# EAGLE library part LCD-DOGM128-6 (library DodoLcd)
DOGM GRAPHIC SERIES 128x64 DOTS
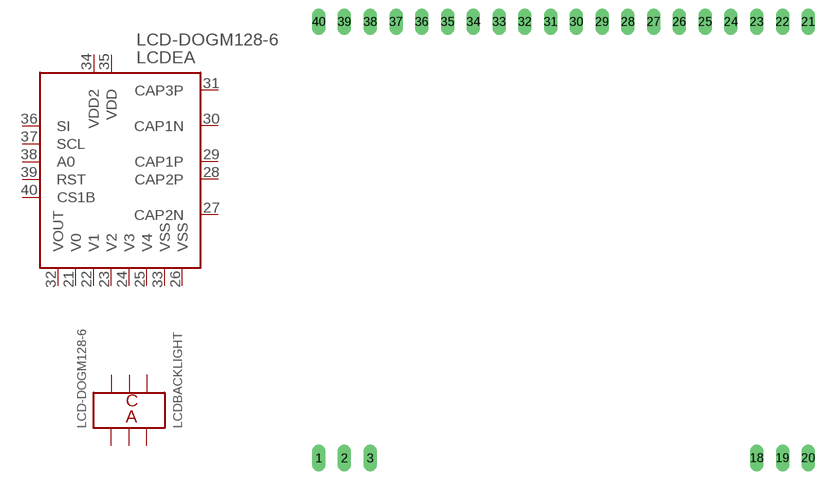
[diagram p9: symbol with the pads of DOGM128; footprint DOGM128]

Designator prefix LCD; gates EA=DOGM128 BACKLIGHT=DOGM128-BACK

## LCD-DOGM128-6  [DOGM128]
1  BACKLIGHT:A
2  BACKLIGHT:A
3  BACKLIGHT:A
18  BACKLIGHT:C
19  BACKLIGHT:C
20  BACKLIGHT:C
21  EA:V0
22  EA:V1
23  EA:V2
24  EA:V3
25  EA:V4
26  EA:VSS
27  EA:CAP2N
28  EA:CAP2P
29  EA:CAP1P
30  EA:CAP1N
31  EA:CAP3P
32  EA:VOUT
33  EA:VSS
34  EA:VDD2
35  EA:VDD
36  EA:SI
37  EA:SCL
38  EA:A0
39  EA:RST
40  EA:CS1B

## Footprint DOGM128 (pad centres in mm)
Display EA DOGM128-6 Electronic Assembly www.lcd-module.de
drill 0.8 long: 1 -24.13,-19.2; 2 -21.59,-19.2; 3 -19.05,-19.2; 18 19.05,-19.2; 19 21.59,-19.2; 20 24.13,-19.2; 21 24.13,23.8; 22 21.59,23.8; 23 19.05,23.8; 24 16.51,23.8; 25 13.97,23.8; 26 11.43,23.8; 27 8.89,23.8; 28 6.35,23.8; 29 3.81,23.8; 30 1.27,23.8; 31 -1.27,23.8; 32 -3.81,23.8; 33 -6.35,23.8; 34 -8.89,23.8; 35 -11.43,23.8; 36 -13.97,23.8; 37 -16.51,23.8; 38 -19.05,23.8; 39 -21.59,23.8; 40 -24.13,23.8